# EAGLE library part M04X2 (library SKAARHOJ)
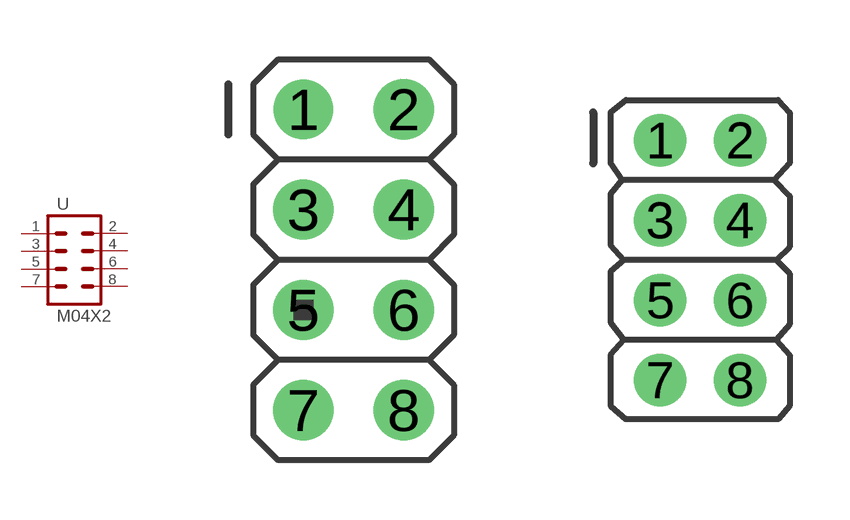
[diagram p53: symbol with the pads of M2X4SMALL; footprints M2X4SMALL, M2X4_2MM]

Designator prefix -

## M04X2  [M2X4SMALL]
1  1  pas
2  2  pas
3  3  pas
4  4  pas
5  5  pas
6  6  pas
7  7  pas
8  8  pas

## M04X22MM  [M2X4_2MM]
Pads as for M2X4SMALL

## M04X2M2X4SMALLER  [M2X4SMALLER]
Pads as for M2X4SMALL

## M04X2ZIF-0.5  [ZIP-8-0.5]
P$1  1  pas
P$2  2  pas
P$3  3  pas
P$4  4  pas
P$5  5  pas
P$6  6  pas
P$7  7  pas
P$8  8  pas

## Footprint M2X4SMALL (pad centres in mm)
drill 1: 1 -1.27,3.81
drill 1.016: 2 1.27,3.81; 3 -1.27,1.27; 4 1.27,1.27; 5 -1.27,-1.27; 6 1.27,-1.27; 7 -1.27,-3.81; 8 1.27,-3.81

## Footprint M2X4_2MM (pad centres in mm)
drill 0.8: 1 -1,3; 2 1,3; 3 -1,1; 4 1,1; 5 -1,-1; 6 1,-1; 7 -1,-3; 8 1,-3

## Footprint M2X4SMALLER (pad centres in mm)
drill 0.9 square: 1 -1.27,3.81
drill 0.9 octagon: 2 1.27,3.81; 3 -1.27,1.27; 4 1.27,1.27; 5 -1.27,-1.27; 6 1.27,-1.27; 7 -1.27,-3.81; 8 1.27,-3.81

## Footprint ZIP-8-0.5 (pad centres in mm)
smd 2.7 x 3: GND$1 3.68,-1.8; GND$9 -3.68,-1.8
smd 0.3 x 0.96: P$1 -1.75,0; P$2 -1.25,0; P$3 -0.75,0; P$4 -0.25,0; P$5 0.25,0; P$6 0.75,0; P$7 1.25,0; P$8 1.75,0